# Altium schematic symbol library Ind_Kemet_L0603CR10JRMST_100nH.SchLib: 1 symbol
Pins are listed as number, name and electrical type; pins without a type are passive.

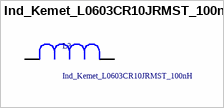
[diagram p0: symbol Ind_Kemet_L0603CR10JRMST_100nH]

## Ind_Kemet_L0603CR10JRMST_100nH
designator L?
Fixed Inductors 100nH 300mA 5%; Supplier Part Number 1: 80-L0603CR10JRMST; Supplier 1: Mouser
pins: 1, 2